# EAGLE library part AFFICHEUR_LCD_2 (library Eagle_Lib_IUT)
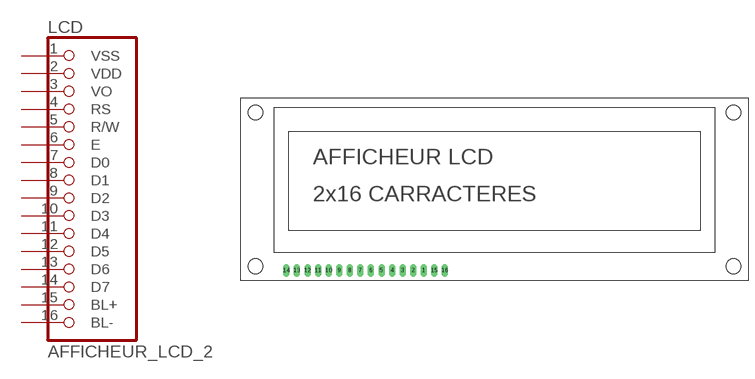
[diagram p8: symbol with the pads of AFFICHEUR_LCD_162F; footprint AFFICHEUR_LCD_162F]

Designator prefix LCD

## AFFICHEUR_LCD_2  [AFFICHEUR_LCD_162F]
1  VSS  pas
2  VDD  pas
3  VO  pas
4  RS  pas
5  R/W  pas
6  E  pas
7  D0  pas
8  D1  pas
9  D2  pas
10  D3  pas
11  D4  pas
12  D5  pas
13  D6  pas
14  D7  pas
15  BL+  pas
16  BL-  pas

## Footprint AFFICHEUR_LCD_162F (pad centres in mm)
drill 1 long: 1 33.02,0; 2 30.48,0; 3 27.94,0; 4 25.4,0; 5 22.86,0; 6 20.32,0; 7 17.78,0; 8 15.24,0; 9 12.7,0; 10 10.16,0; 11 7.62,0; 12 5.08,0; 13 2.54,0; 14 0,0; 15 35.56,0; 16 38.1,0
hole 3.5 at -7.48,1
hole 3.5 at -7.48,38
hole 3.5 at 107.52,38
hole 3.5 at 107.52,1